# Altium footprint library DO-214AC.PcbLib: 1 footprints
Each footprint in its own frame and in the unit in brackets; x right, y up, seen from the top. Pads: shape width x height; smd on the part's side, far side on the other; paste and mask are expansions set on the pad; w line width, h text height; cw(c..) or ccw(c..) is an arc to the next point about the centre after c.
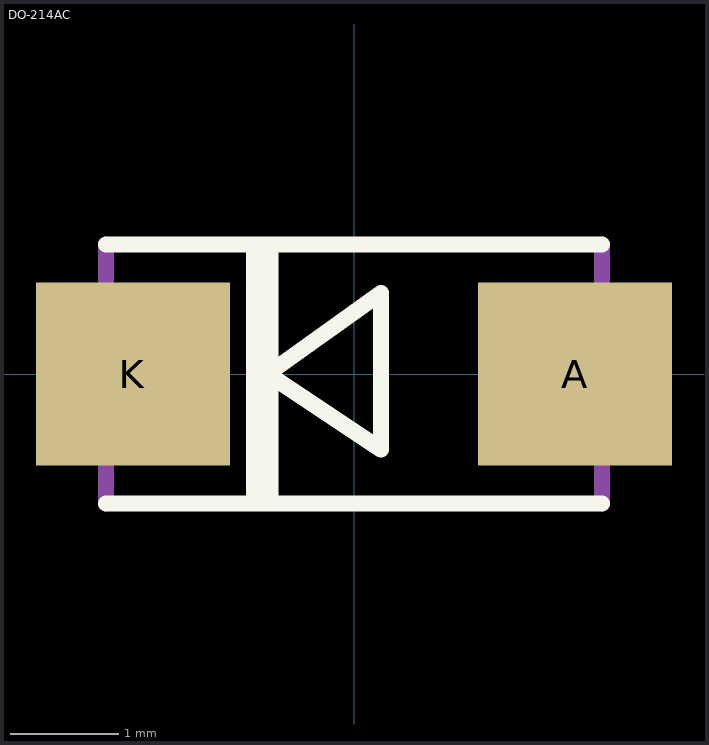
[diagram p0: the footprint, top view; thin cyan lines are the x and y axes]

## DO-214AC [mm]
pads (2):
  rect 1.8x1.7 smd: A(2.05,0) K(-2.05,0)
Top Overlay:
  region: -0.7,-1.15 -1,-1.15 -1,1.15 -0.7,1.15
  lines w0.15: -2.3,-1.2 2.3,-1.2 ; -2.3,1.2 2.3,1.2 ; -0.8,0 0.25,-0.7 0.25,0.75 -0.8,0
Mechanical 13:
  region: 2.6,-0.7 2.35,-0.7 2.35,0.65 2.6,0.65
  region: -2.35,-0.7 -2.6,-0.7 -2.6,0.65 -2.35,0.65
  lines w0.15: -2.3,-1.2 -2.3,1.2 ; 2.3,-1.2 2.3,1.2
3D body "step_temp.STEP": height 2.7, standoff 0, extent -2.556,-1.429 2.644,1.296